# EAGLE library part IC_UC_PIC24J***GP106 (library dp_devices)
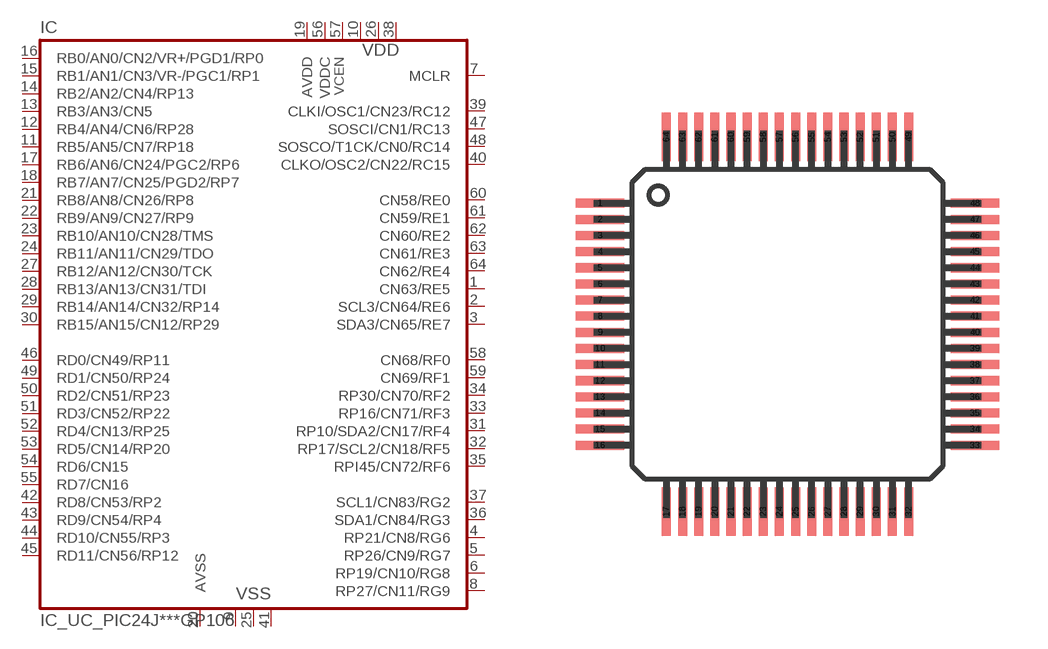
[diagram p79: symbol with the pads of TQFP-64-10X10; footprint TQFP-64-10X10]

Designator prefix IC

## IC_UC_PIC24JGP106  [TQFP-64-10X10]
1  CN63/RE5
2  SCL3/CN64/RE6
3  SDA3/CN65/RE7
4  RP21/CN8/RG6
5  RP26/CN9/RG7
6  RP19/CN10/RG8
7  MCLR  in
8  RP27/CN11/RG9
9  VSS  pwr
10  VDD  pwr
11  RB5/AN5/CN7/RP18
12  RB4/AN4/CN6/RP28
13  RB3/AN3/CN5
14  RB2/AN2/CN4/RP13
15  RB1/AN1/CN3/VR-/PGC1/RP1
16  RB0/AN0/CN2/VR+/PGD1/RP0
17  RB6/AN6/CN24/PGC2/RP6
18  RB7/AN7/CN25/PGD2/RP7
19  AVDD  pwr
20  AVSS  pwr
21  RB8/AN8/CN26/RP8
22  RB9/AN9/CN27/RP9
23  RB10/AN10/CN28/TMS
24  RB11/AN11/CN29/TDO
25  VSS  pwr
26  VDD  pwr
27  RB12/AN12/CN30/TCK
28  RB13/AN13/CN31/TDI
29  RB14/AN14/CN32/RP14
30  RB15/AN15/CN12/RP29
31  RP10/SDA2/CN17/RF4
32  RP17/SCL2/CN18/RF5
33  RP16/CN71/RF3
34  RP30/CN70/RF2
35  RPI45/CN72/RF6
36  SDA1/CN84/RG3
37  SCL1/CN83/RG2
38  VDD  pwr
39  CLKI/OSC1/CN23/RC12
40  CLKO/OSC2/CN22/RC15
41  VSS  pwr
42  RD8/CN53/RP2
43  RD9/CN54/RP4
44  RD10/CN55/RP3
45  RD11/CN56/RP12
46  RD0/CN49/RP11
47  SOSCI/CN1/RC13
48  SOSCO/T1CK/CN0/RC14
49  RD1/CN50/RP24
50  RD2/CN51/RP23
51  RD3/CN52/RP22
52  RD4/CN13/RP25
53  RD5/CN14/RP20
54  RD6/CN15
55  RD7/CN16
56  VDDC  pwr
57  VCEN  pwr
58  CN68/RF0
59  CN69/RF1
60  CN58/RE0
61  CN59/RE1
62  CN60/RE2
63  CN61/RE3
64  CN62/RE4

## Footprint TQFP-64-10X10 (pad centres in mm)
smd 1.5 x 0.28: 1 -5.8,3.75; 2 -5.8,3.25; 3 -5.8,2.75; 4 -5.8,2.25; 5 -5.8,1.75; 6 -5.8,1.25; 7 -5.8,0.75; 8 -5.8,0.25; 9 -5.8,-0.25; 10 -5.8,-0.75; 11 -5.8,-1.25; 12 -5.8,-1.75; 13 -5.8,-2.25; 14 -5.8,-2.75; 15 -5.8,-3.25; 16 -5.8,-3.75; 33 5.8,-3.75; 34 5.8,-3.25; 35 5.8,-2.75; 36 5.8,-2.25; 37 5.8,-1.75; 38 5.8,-1.25; 39 5.8,-0.75; 40 5.8,-0.25; 41 5.8,0.25; 42 5.8,0.75; 43 5.8,1.25; 44 5.8,1.75; 45 5.8,2.25; 46 5.8,2.75; 47 5.8,3.25; 48 5.8,3.75
smd 0.28 x 1.5: 17 -3.75,-5.8; 18 -3.25,-5.8; 19 -2.75,-5.8; 20 -2.25,-5.8; 21 -1.75,-5.8; 22 -1.25,-5.8; 23 -0.75,-5.8; 24 -0.25,-5.8; 25 0.25,-5.8; 26 0.75,-5.8; 27 1.25,-5.8; 28 1.75,-5.8; 29 2.25,-5.8; 30 2.75,-5.8; 31 3.25,-5.8; 32 3.75,-5.8; 49 3.75,5.8; 50 3.25,5.8; 51 2.75,5.8; 52 2.25,5.8; 53 1.75,5.8; 54 1.25,5.8; 55 0.75,5.8; 56 0.25,5.8; 57 -0.25,5.8; 58 -0.75,5.8; 59 -1.25,5.8; 60 -1.75,5.8; 61 -2.25,5.8; 62 -2.75,5.8; 63 -3.25,5.8; 64 -3.75,5.8